# Altium footprint library Klaibracija2.PcbLib: 3 footprints
Each footprint in its own frame and in the unit in brackets; x right, y up, seen from the top. Pads: shape width x height; smd on the part's side, far side on the other; paste and mask are expansions set on the pad; w line width, h text height; cw(c..) or ccw(c..) is an arc to the next point about the centre after c.
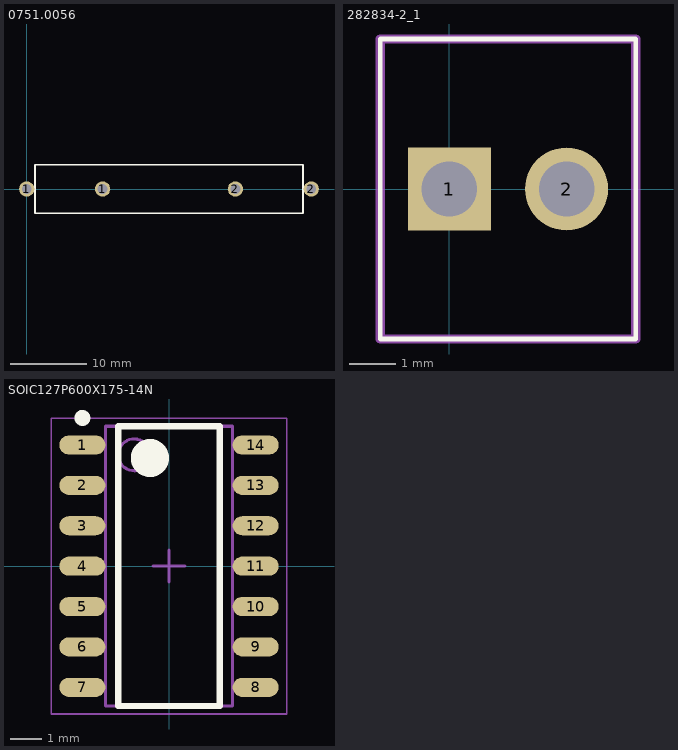
[diagram p0: the footprints below, top view; thin cyan lines are the x and y axes]

## 0751.0056 [mil] "6.3 x 32 mm Fuse cliping"
pads (4):
  round 80 hole 51.18: 1(0,0) 1(393.7,0) 2(1082.68,0) 2(1476.38,0)
Top Overlay:
  lines w10: 43.38,125.98 43.31,125.98 ; 43.31,125.98 43.31,-125.98 1433.07,-125.98 1433.07,125.98 43.31,125.98

## 282834-2_1 [mm]
pads (2):
  rect 1.8x1.8 hole 1.2: 1(0,0)
  round 1.8 hole 1.2: 2(2.54,0)
Top Overlay:
  lines w0.1: -1.5,-3.25 -1.5,3.25 4.04,3.25 4.04,-3.25 -1.5,-3.25
Mechanical 13:
  lines w0.2: -1.5,-3.25 -1.5,3.25 4.04,3.25 4.04,-3.25 -1.5,-3.25
3D body "282834-2.stp": height 10, standoff -3.4, extent -1.5,-3.25 4.04,3.25

## SOIC127P600X175-14N [mm] "SOIC, 14-Leads, Body 8,65x3,90mm, Pitch 1,27mm, IPC Medium Density"
height 1.75
pads (14):
  oval 1.45x0.6 smd: 1(-2.725,3.81) 2(-2.725,2.54) 3(-2.725,1.27) 4(-2.725,0) 5(-2.725,-1.27) 6(-2.725,-2.54) 7(-2.725,-3.81) 8(2.725,-3.81) 9(2.725,-2.54) 10(2.725,-1.27) 11(2.725,0) 12(2.725,1.27) 13(2.725,2.54) 14(2.725,3.81)
Top Overlay:
  circle w0.25: c-2.725,4.66 r0.125
  circle w0.6: c-0.6,3.4 r0.3
  lines w0.2: -1.6,-4.4 -1.6,4.4 1.6,4.4 1.6,-4.4 -1.6,-4.4
Mechanical 13:
  circle w0.1: c-1.1,3.5 r0.5
  lines w0.1: -2,-4.4 -2,4.4 2,4.4 2,-4.4 -2,-4.4
Mechanical 15:
  lines w0.05: -3.7,-4.65 -3.7,4.65 3.7,4.65 3.7,-4.65 -3.7,-4.65
  lines w0.1: -0.5,0 0.5,0 ; 0,-0.5 0,0.5
3D body: height 1.75, standoff 0.1, extent -2,-4.4 2,4.4